# Altium footprint library TRIM_3224W1103E.PcbLib: 1 footprints
Each footprint in its own frame and in the unit in brackets; x right, y up, seen from the top. Pads: shape width x height; smd on the part's side, far side on the other; paste and mask are expansions set on the pad; w line width, h text height; cw(c..) or ccw(c..) is an arc to the next point about the centre after c.
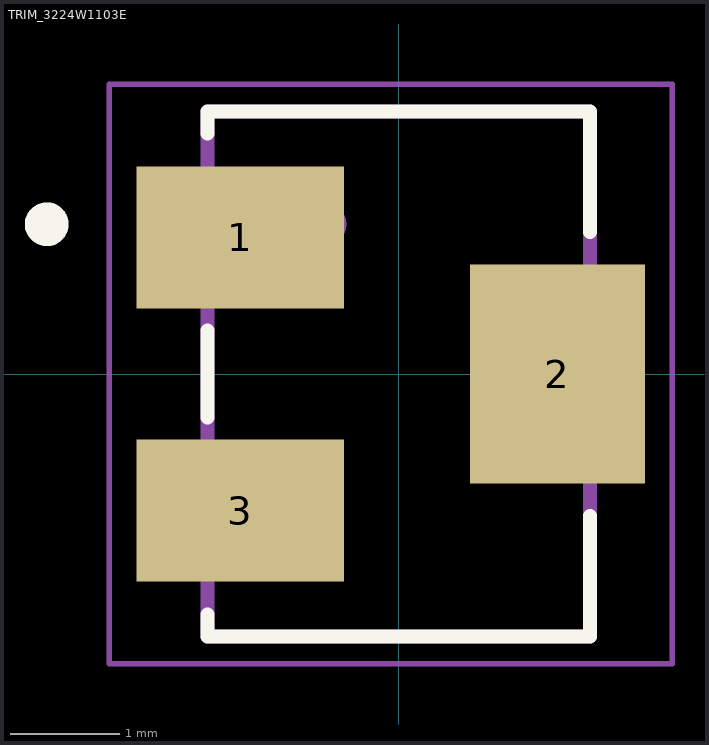
[diagram p0: the footprint, top view; thin cyan lines are the x and y axes]

## TRIM_3224W1103E [mm]
pads (3):
  rect 1.9x1.3 smd: 1(-1.45,1.25) 3(-1.45,-1.25)
  rect 1.6x2 smd: 2(1.45,0)
Top Overlay:
  circle w0.2: c-3.22,1.37 r0.1
  lines w0.127: -1.75,-2.2 -1.75,-2.4 1.75,-2.4 1.75,-1.3 ; -1.75,-0.4 -1.75,0.4 ; -1.75,2.2 -1.75,2.4 1.75,2.4 1.75,1.3
Assembly Top:
  circle w0.2: c-0.68,1.37 r0.1
  lines w0.127: -1.75,-2.4 -1.75,2.4 1.75,2.4 1.75,-2.4 -1.75,-2.4
Top Courtyard:
  lines w0.05: -2.65,-2.65 2.5,-2.65 2.5,2.65 -2.65,2.65 -2.65,-2.65
3D body "step_temp.STEP": height 5.3, standoff 0, extent -1.95,-2.4 1.95,2.4